# EAGLE library part 171020601 (library DC-DC Converter)
DC DC CONVERTER 0.8-6V Manufacturer's datasheet <https://media.digikey.com/pdf/Data%20Sheets/Wurth%20Electronics%20PDFs/171020601_DS_Rev_Nov_2017.pdf>
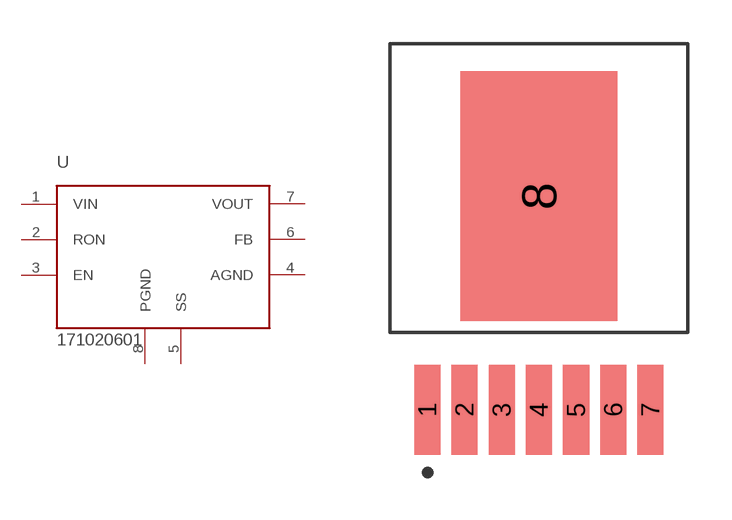
[diagram p6: symbol with the pads of 171020601; footprint 171020601]

Designator prefix U

## 171020601 (CREATED_BY: PCBLayout.com; DIGIKEY_PN: 732-6214-2-ND; MANUFACTURER: Würth Elektronik; MPN: 171020601; PACKAGE: 7-SMD Module)  [171020601]
1  VIN  pwr
2  RON  in
3  EN  in
4  AGND  pwr
5  SS  in
6  FB  in
7  VOUT  pwr
8  PGND  pwr

## Footprint 171020601 (pad centres in mm)
smd 0.89 x 3.06: 1 -3.81,-3.652; 2 -2.54,-3.652; 3 -1.27,-3.652; 4 0,-3.652; 5 1.27,-3.652; 6 2.54,-3.652; 7 3.81,-3.652
smd 5.35 x 8.54: 8 0,3.652